# Altium footprint library Nixie_tube.PcbLib: 9 footprints
Each footprint in its own frame and in the unit in brackets; x right, y up, seen from the top. Pads: shape width x height; smd on the part's side, far side on the other; paste and mask are expansions set on the pad; w line width, h text height; cw(c..) or ccw(c..) is an arc to the next point about the centre after c.
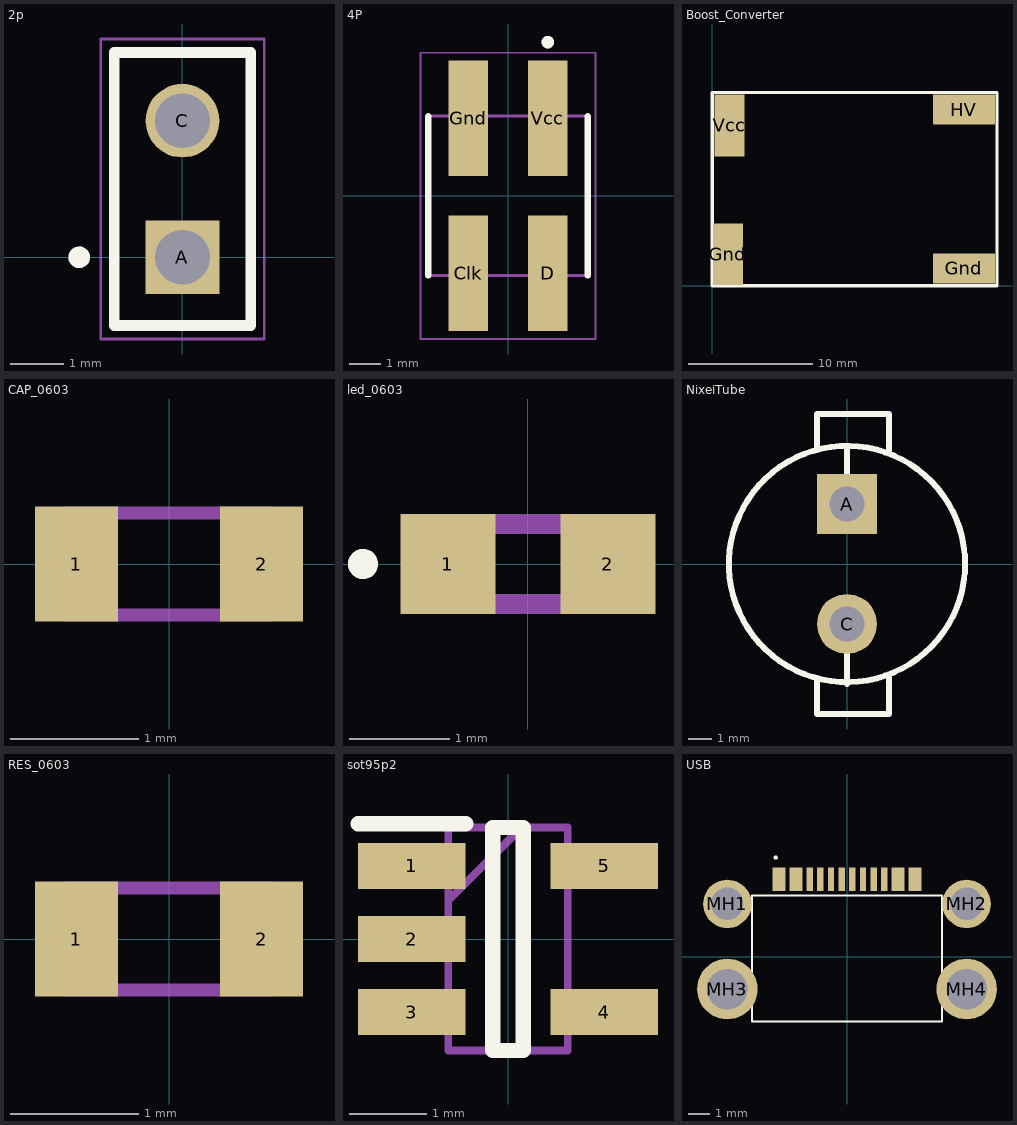
[diagram p0: the footprints below, top view; thin cyan lines are the x and y axes]

## 2p [mm]
pads (2):
  rect 1.37x1.37 hole 1.02: A(0,0)
  round 1.37 hole 1.02: C(0,2.54)
Top Overlay:
  circle w0.2: c-1.92,0 r0.1
  lines w0.2: -1.27,-1.27 -1.27,3.81 1.27,3.81 1.27,-1.27 -1.27,-1.27
Mechanical 13:
  circle w0.2: c-1.92,0 r0.1
  lines w0.1: -1.27,-1.27 -1.27,3.81 1.27,3.81 1.27,-1.27 -1.27,-1.27
Mechanical 15:
  lines w0.05: -1.52,-1.52 -1.52,4.06 1.52,4.06 1.52,-1.52 -1.52,-1.52

## 4P [mm]
pads (4):
  rect 1.27x3.68 smd: Clk(-1.27,-2.475) D(1.27,-2.475) Gnd(-1.27,2.475) Vcc(1.27,2.475)
Top Overlay:
  circle w0.2: c1.27,4.9 r0.1
  lines w0.2: -2.54,-2.54 -2.54,2.54 ; 2.54,-2.54 2.54,2.54
Mechanical 13:
  circle w0.2: c1.27,4.9 r0.1
  lines w0.1: -2.54,-2.54 2.54,-2.54 2.54,2.54 -2.54,2.54 -2.54,-2.54
Mechanical 15:
  lines w0.05: -2.79,-4.565 2.79,-4.565 2.79,4.565 -2.79,4.565 -2.79,-4.565
3D body "step_temp.STEP": height 9.91, standoff 0, extent -2.54,-3.848 2.54,3.848

## Boost_Converter [mm]
pads (4):
  rect 2.4x5 smd: Gnd(1.27,2.54) Vcc(1.397,12.954)
  rect 5x2.4 smd: Gnd(20.32,1.397) HV(20.32,14.224)
Top Overlay:
  lines w0.254: 0,0 23,0 23,15.6 7.4,15.6 0,15.6 0,0

## CAP_0603 [mm]
pads (2):
  rect 0.65x0.9 smd: 1(-0.725,0) 2(0.725,0)
Mechanical 13:
  lines w0.1: -0.8,-0.4 0.8,-0.4 0.8,0.4 -0.8,0.4 -0.8,-0.4
3D body "ERJ-H3EF47R0V.stp": height 0.55, standoff 0, extent -0.8,-0.4 0.8,0.4

## led_0603 [mm]
pads (2):
  rect 0.95x1 smd: 1(-0.8,0) 2(0.8,0)
Top Overlay:
  circle w0.2: c-1.65,0 r0.05
Mechanical 13:
  lines w0.2: -0.8,-0.4 -0.8,0.4 0.8,0.4 0.8,-0.4 -0.8,-0.4
3D body "C0603C472K4RACAUTO.stp": height 0, standoff -0.95, extent -0.875,-0.432 0.875,0.438

## NixeiTube [mm]
pads (2):
  rect 2.54x2.54 hole 1.5: A(0,2.54)
  round 2.54 hole 1.5: C(0,-2.54)
Top Overlay:
  circle w0.254: c0,0 r5
  lines w0.254: -1.27,-4.826 -1.27,-6.35 1.778,-6.35 1.778,-4.826 ; -1.27,4.826 -1.27,6.35 1.778,6.35 1.778,4.826 ; 0,-5.08 0,-3.81 ; 0,3.81 0,4.826

## RES_0603 [mm]
pads (2):
  rect 0.65x0.9 smd: 1(-0.725,0) 2(0.725,0)
Mechanical 13:
  lines w0.1: -0.8,-0.4 -0.8,0.4 0.8,0.4 0.8,-0.4 -0.8,-0.4
3D body "ERJ-H3EF47R0V.stp": height 0.55, standoff 0, extent -0.8,-0.4 0.8,0.4

## sot95p2 [mm]
pads (5):
  rect 1.4x0.6 smd: 1(-1.25,0.95) 2(-1.25,0) 3(-1.25,-0.95) 4(1.25,-0.95) 5(1.25,0.95)
Top Overlay:
  lines w0.2: -1.95,1.5 -0.55,1.5 ; -0.2,-1.45 -0.2,1.45 0.2,1.45 0.2,-1.45 -0.2,-1.45
Mechanical 13:
  lines w0.1: -0.775,0.5 0.175,1.45 ; -0.775,-1.45 -0.775,1.45 0.775,1.45 0.775,-1.45 -0.775,-1.45
3D body "MCP73831T-2ACI_OT.stp": height 1.45, standoff 0, extent -1.35,-1.45 1.35,1.45

## USB [mm]
pads (20):
  rect 0.3x1.1 smd: A1(-3.35,3.625) A4(-2.55,3.625) A5(-1.25,3.625) A6(-0.25,3.625) A7(0.25,3.625) A8(1.25,3.625) A9(2.55,3.625) A12(3.35,3.625) B1(3.05,3.625) B4(2.25,3.625) B5(1.75,3.625) B6(0.75,3.625) B7(-0.75,3.625) B8(-1.75,3.625) B9(-2.25,3.625) B12(-3.05,3.625)
  round 2.28 hole 1.52: MH1(-5.62,2.475) MH2(5.62,2.475)
  round 2.85 hole 1.9: MH3(-5.62,-1.525) MH4(5.62,-1.525)
Top Overlay:
  lines w0.1: -4.47,-3.048 -4.47,2.875 4.47,2.875 4.47,-3.048 -4.47,-3.048 ; -3.35,4.6 ccw(c-3.35,4.65) -3.35,4.7 ccw(c-3.35,4.65) -3.35,4.6